# EAGLE library part BEAGLEBONECONNECTOR (library Highwind)
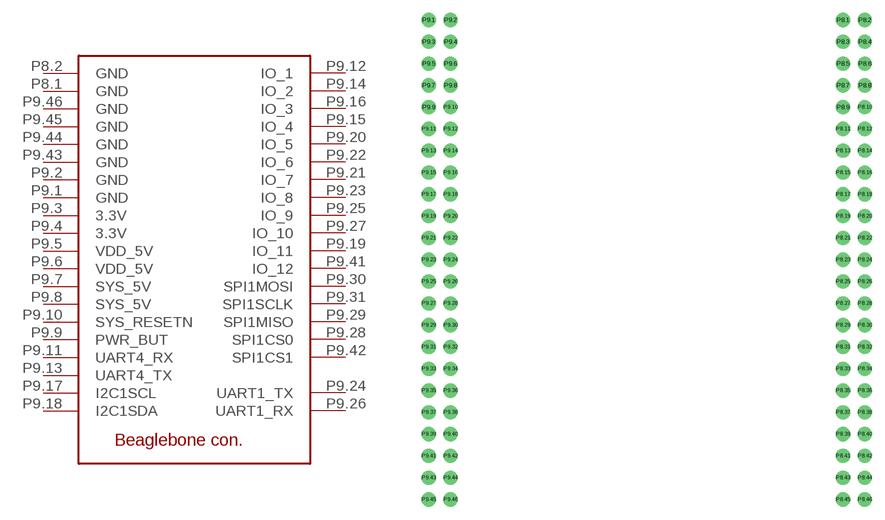
[diagram p0: symbol with the pads of BBONE_SHIELD_HEADER; footprint BBONE_SHIELD_HEADER]

Designator prefix -

## BEAGLEBONECONNECTOR  [BBONE_SHIELD_HEADER]
P8.1  GND  pwr
P8.2  GND  pwr
P9.1  GND  pwr
P9.2  GND  pwr
P9.3  3.3V  pwr
P9.4  3.3V  pwr
P9.5  VDD_5V  pwr
P9.6  VDD_5V  pwr
P9.7  SYS_5V  pwr
P9.8  SYS_5V  pwr
P9.9  PWR_BUT
P9.10  SYS_RESETN  out
P9.11  UART4_RX  in
P9.12  IO_1
P9.13  UART4_TX  out
P9.14  IO_2
P9.15  IO_4
P9.16  IO_3
P9.17  I2C1SCL  out
P9.18  I2C1SDA  in
P9.19  IO_11
P9.20  IO_5
P9.21  IO_7
P9.22  IO_6
P9.23  IO_8
P9.24  UART1_TX  out
P9.25  IO_9
P9.26  UART1_RX  in
P9.27  IO_10
P9.28  SPI1CS0  out
P9.29  SPI1MISO  in
P9.30  SPI1MOSI  out
P9.31  SPI1SCLK  out
P9.41  IO_12
P9.42  SPI1CS1  out
P9.43  GND  pwr
P9.44  GND  pwr
P9.45  GND  pwr
P9.46  GND  pwr

## Footprint BBONE_SHIELD_HEADER (pad centres in mm)
drill 1.1 round: P8.1 20.32,25.4; P8.2 22.86,25.4; P8.3 20.32,22.86; P8.4 22.86,22.86; P8.5 20.32,20.32; P8.6 22.86,20.32; P8.7 20.32,17.78; P8.8 22.86,17.78; P8.9 20.32,15.24; P8.10 22.86,15.24; P8.11 20.32,12.7; P8.12 22.86,12.7; P8.13 20.32,10.16; P8.14 22.86,10.16; P8.15 20.32,7.62; P8.16 22.86,7.62; P8.17 20.32,5.08; P8.18 22.86,5.08; P8.19 20.32,2.54; P8.20 22.86,2.54; P8.21 20.32,0; P8.22 22.86,0; P8.23 20.32,-2.54; P8.24 22.86,-2.54; P8.25 20.32,-5.08; P8.26 22.86,-5.08; P8.27 20.32,-7.62; P8.28 22.86,-7.62; P8.29 20.32,-10.16; P8.30 22.86,-10.16; P8.31 20.32,-12.7; P8.32 22.86,-12.7; P8.33 20.32,-15.24; P8.34 22.86,-15.24; P8.35 20.32,-17.78; P8.36 22.86,-17.78; P8.37 20.32,-20.32; P8.38 22.86,-20.32; P8.39 20.32,-22.86; P8.40 22.86,-22.86; P8.41 20.32,-25.4; P8.42 22.86,-25.4; P8.43 20.32,-27.94; P8.44 22.86,-27.94; P8.45 20.32,-30.48; P8.46 22.86,-30.48; P9.1 -27.94,25.4; P9.2 -25.4,25.4; P9.3 -27.94,22.86; P9.4 -25.4,22.86; P9.5 -27.94,20.32; P9.6 -25.4,20.32; P9.7 -27.94,17.78; P9.8 -25.4,17.78; P9.9 -27.94,15.24; P9.10 -25.4,15.24; P9.11 -27.94,12.7; P9.12 -25.4,12.7; P9.13 -27.94,10.16; P9.14 -25.4,10.16; P9.15 -27.94,7.62; P9.16 -25.4,7.62; P9.17 -27.94,5.08; P9.18 -25.4,5.08; P9.19 -27.94,2.54; P9.20 -25.4,2.54; P9.21 -27.94,0; P9.22 -25.4,0; P9.23 -27.94,-2.54; P9.24 -25.4,-2.54; P9.25 -27.94,-5.08; P9.26 -25.4,-5.08; P9.27 -27.94,-7.62; P9.28 -25.4,-7.62; P9.29 -27.94,-10.16; P9.30 -25.4,-10.16; P9.31 -27.94,-12.7; P9.32 -25.4,-12.7; P9.33 -27.94,-15.24; P9.34 -25.4,-15.24; P9.35 -27.94,-17.78; P9.36 -25.4,-17.78; P9.37 -27.94,-20.32; P9.38 -25.4,-20.32; P9.39 -27.94,-22.86; P9.40 -25.4,-22.86; P9.41 -27.94,-25.4; P9.42 -25.4,-25.4; P9.43 -27.94,-27.94; P9.44 -25.4,-27.94; P9.45 -27.94,-30.48; P9.46 -25.4,-30.48